# Altium schematic symbol library SamacSys.SchLib: 125 symbols (part 2 of 2)
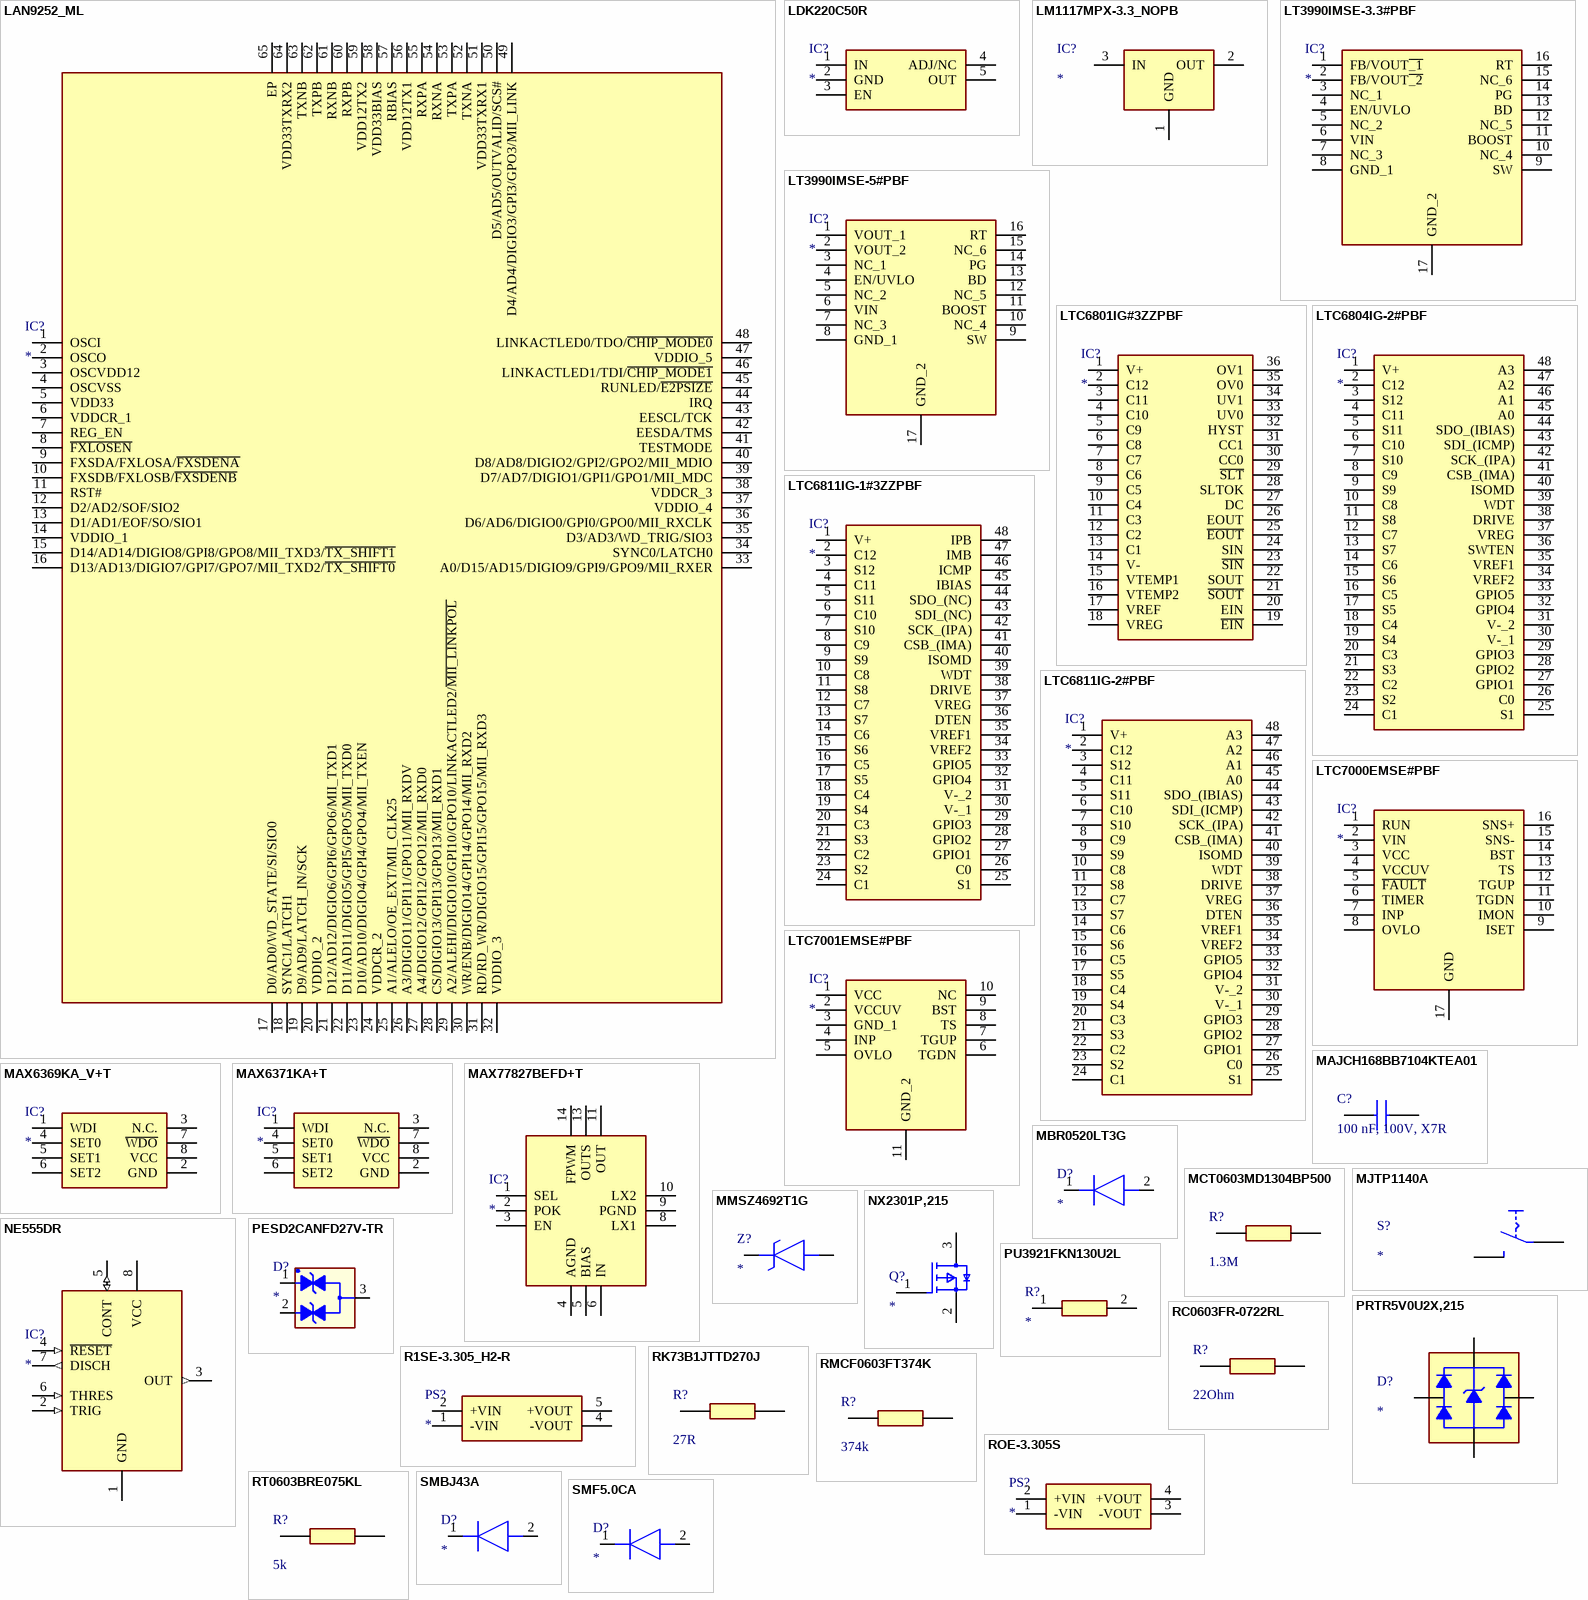
[diagram p4: symbols LAN9252_ML to SMF5.0CA]

## MAJCH168BB7104KTEA01
designator C?, comment 100 nF, 100V, X7R
Capacitor 100nF, 100V, X7R; Manufacturer_Name: TAIYO YUDEN; Manufacturer_Part_Number: MAJCH168BB7104KTEA01; Datasheet Link: https://ds.yuden.co.jp/TYCOMPAS/or/detail?pn=MAJCH168BB7104KTEA01; Height: 0.8mm; Mouser Part Number: 963-MAJCH168BB7104KT; Mouser Price/Stock: https://www.mouser.co.uk/ProductDetail/TAIYO-YUDEN/MAJCH168BB7104KTEA01?qs=ZcfC38r4PovaTBrG0IdezQ%3D%3D; Arrow Part Number: MAJCH168BB7104KTEA01; Arrow Price/Stock: https://www.arrow.com/en/products/majch168bb7104ktea01/taiyo-yuden?utm_currency=USD&region=nac; Supplier 1: Mouser; Supplier Part Number 1: 963-MAJCH168BB7104KT
footprint MAJx16
pins: 1, 2

## MAX6369KA_V+T
designator IC?
Integrated Circuit; Manufacturer_Name: Analog Devices; Manufacturer_Part_Number: MAX6369KA/V+T; Datasheet Link: https://pdfserv.maximintegrated.com/en/ds/MAX6369-MAX6374.pdf; Height: 1.45mm; Mouser Part Number: 700-MAX6369KA/V+T; Mouser Price/Stock: https://www.mouser.co.uk/ProductDetail/Analog-Devices-Maxim-Integrated/MAX6369KA-V%2bT?qs=Mc2rGIXtnyXSLiZoc8BdSg%3D%3D; Arrow Part Number: MAX6369KA/V+T; Arrow Price/Stock: https://www.arrow.com/en/products/max6369kavt/maxim-integrated?region=nac
footprint SOT65P280X145-8N
pins: 1 WDI, 2 GND (power), 3 N.C., 4 SET0, 5 SET1, 6 SET2, 7 ~{WDO}, 8 VCC (power)

## MAX6371KA+T
designator IC?
Integrated Circuit; Manufacturer_Name: Analog Devices; Manufacturer_Part_Number: MAX6371KA+T; Datasheet Link: http://datasheets.maximintegrated.com/en/ds/MAX6369-MAX6374.pdf; Height: 1.45mm; Mouser Part Number: 700-MAX6371KAT; Mouser Price/Stock: https://www.mouser.co.uk/ProductDetail/Analog-Devices-Maxim-Integrated/MAX6371KA%2bT?qs=S0kZczzPnwlF5a77C%252BMVSA%3D%3D; Arrow Part Number: MAX6371KA+T; Arrow Price/Stock: https://www.arrow.com/en/products/max6371kat/analog-devices?region=nac
footprint SOT65P280X145-8N
pins: 1 WDI, 2 GND (power), 3 N.C., 4 SET0, 5 SET1, 6 SET2, 7 ~{WDO}, 8 VCC (power)

## MAX77827BEFD+T
designator IC?
Integrated Circuit; Manufacturer_Name: Analog Devices; Manufacturer_Part_Number: MAX77827BEFD+T; Datasheet Link: https://www.analog.com/media/en/technical-documentation/data-sheets/MAX77827.pdf; Height: 0.6mm; Mouser Part Number: 700-MAX77827BEFD+T; Mouser Price/Stock: https://www.mouser.co.uk/ProductDetail/Analog-Devices-Maxim-Integrated/MAX77827BEFD%2bT?qs=yqaQSyyJnNgFOTHEkqA3ww%3D%3D; Arrow Part Number: MAX77827BEFD+T; Arrow Price/Stock: https://www.arrow.com/en/products/max77827befdt/analog-devices?utm_currency=USD&region=nac
footprint MAX77827BEFDT
pins: 1 SEL, 2 POK, 3 EN, 4 AGND, 5 BIAS, 6 IN, 8 LX1, 9 PGND, 10 LX2, 11 OUT, 13 OUTS, 14 FPWM

## MBR0520LT3G
designator D?
Diode; Manufacturer_Name: onsemi; Manufacturer_Part_Number: MBR0520LT3G; Datasheet Link: https://www.onsemi.com/pub/Collateral/MBR0520LT1-D.PDF; Height: 1.35mm; Mouser Part Number: 863-MBR0520LT3G; Mouser Price/Stock: https://www.mouser.co.uk/ProductDetail/onsemi/MBR0520LT3G?qs=3JMERSakebrHITezQJBmeQ%3D%3D; Arrow Part Number: MBR0520LT3G; Arrow Price/Stock: https://www.arrow.com/en/products/mbr0520lt3g/on-semiconductor?utm_currency=USD&region=nac
footprint SOD3716X135N
pins: 1 K, 2 A

## MCT0603MD1304BP500
designator R?, comment value 1.3M  (hidden comment: 1.3M 1%)
Resistor 1.3M 1%; Manufacturer_Name: Vishay; Manufacturer_Part_Number: MCT0603MD1304BP500; Datasheet Link: http://www.vishay.com/docs/28705/mcx0x0xpro.pdf; Height: 0.55mm; Mouser Part Number: 594-MCT0603MD1304BP5; Mouser Price/Stock: https://www.mouser.co.uk/ProductDetail/Vishay/MCT0603MD1304BP500?qs=Jslch3jnSjn3NEL17BAJuQ%3D%3D; Supplier 1: Mouser; Supplier Part Number 1: 594-MCT0603MD1304BP5
footprint RESC1608X55N
pins: 1, 2

## MJTP1140A
designator S?
Switch; Manufacturer_Name: Apem; Manufacturer_Part_Number: MJTP1140A; Datasheet Link: https://componentsearchengine.com/Datasheets/1/MJTP1140A.pdf; Height: 1.5mm; Mouser Part Number: 642-MJTP1140A; Mouser Price/Stock: https://www.mouser.com/Search/Refine.aspx?Keyword=642-MJTP1140A
footprint MJTP1140A
pins: 1, 2

## MMSZ4692T1G
designator Z?
Zener Diode 6.8V; Manufacturer_Name: onsemi; Manufacturer_Part_Number: MMSZ4692T1G; Datasheet Link: https://www.onsemi.com/pub/Collateral/MMSZ4678T1-D.PDF; Height: 1.35mm; Mouser Part Number: 863-MMSZ4692T1G; Mouser Price/Stock: https://www.mouser.co.uk/ProductDetail/onsemi/MMSZ4692T1G?qs=P4IOph%252Bbot8jSn3zyyx1xw%3D%3D; Arrow Part Number: MMSZ4692T1G; Arrow Price/Stock: https://www.arrow.com/en/products/mmsz4692t1g/on-semiconductor
footprint SOD3716X135N
pins: 1 K, 2 A

## NE555DR
designator IC?
Integrated Circuit; Manufacturer_Name: Texas Instruments; Manufacturer_Part_Number: NE555DR; Datasheet Link: http://www.ti.com/lit/ds/symlink/ne555.pdf; Height: 1.75mm; Mouser Part Number: 595-NE555DR; Mouser Price/Stock: https://www.mouser.com/Search/Refine.aspx?Keyword=595-NE555DR; RS Part Number: 1218414; RS Price/Stock: http://uk.rs-online.com/web/p/products/1218414
footprint SOIC127P600X175-8N
pins: 1 GND (power), 2 TRIG (in), 3 OUT (out), 4 ~{RESET} (in), 5 CONT (io), 6 THRES (in), 7 DISCH (out), 8 VCC (power)

## NX2301P,215
designator Q?
MOSFET (P-Channel); Manufacturer_Name: Nexperia; Manufacturer_Part_Number: NX2301P,215; Datasheet Link: https://assets.nexperia.com/documents/data-sheet/NX2301P.pdf; Height: 1.1mm; Mouser Part Number: 771-NX2301P215; Mouser Price/Stock: https://www.mouser.co.uk/ProductDetail/Nexperia/NX2301P215?qs=A1cBxND5mHKs%252BLrxCDENxw%3D%3D; Arrow Part Number: NX2301P,215; Arrow Price/Stock: https://www.arrow.com/en/products/nx2301p215/nexperia?utm_currency=USD&region=europe
footprint SOT95P230X110-3N
pins: 1 G, 2 S, 3 D

## PESD2CANFD27V-TR
designator D?
Diode; Manufacturer_Name: Nexperia; Manufacturer_Part_Number: PESD2CANFD27V-TR; Datasheet Link: https://assets.nexperia.com/documents/data-sheet/PESD2CANFD27V-T.pdf; Height: 1.1mm; Mouser Part Number: 771-PESD2CANFD27V-TR; Mouser Price/Stock: https://www.mouser.co.uk/ProductDetail/Nexperia/PESD2CANFD27V-TR?qs=OlC7AqGiEDlVVUGGaoaotA%3D%3D; Arrow Part Number: PESD2CANFD27V-TR; Arrow Price/Stock: null?utm_currency=USD&region=nac
footprint SOT95P230X110-3N
pins: 1 K1, 2 K2, 3 A

## PRTR5V0U2X,215
designator D?
Diode; Manufacturer_Name: Nexperia; Manufacturer_Part_Number: PRTR5V0U2X,215; Datasheet Link: https://assets.nexperia.com/documents/data-sheet/PRTR5V0U2X.pdf; Height: 1.1mm; Mouser Part Number: 771-PRTR5V0U2X-T/R; Mouser Price/Stock: https://www.mouser.co.uk/ProductDetail/Nexperia/PRTR5V0U2X215?qs=LOCUfHb8d9sDkgY4cRj8Lw%3D%3D; Arrow Part Number: PRTR5V0U2X,215; Arrow Price/Stock: https://www.arrow.com/en/products/prtr5v0u2x215/nexperia?utm_currency=USD&region=europe
footprint PRTR5V0U2X
pins: 1 ground, 2 input/output_1, 3 input/output_2, 4 supply_voltage

## PU3921FKN130U2L
designator R?
Resistor; Manufacturer_Name: YAGEO; Manufacturer_Part_Number: PU3921FKN130U2L; Datasheet Link: https://www.yageo.com/upload/media/product/app/datasheet/rchip/pyu-pu_51_rohs_l.pdf; Height: 0.63mm; Mouser Part Number: 603-PU3921FKN130U2L; Mouser Price/Stock: https://www.mouser.co.uk/ProductDetail/YAGEO/PU3921FKN130U2L?qs=Yv%2FzsQ5pz3Hao%2Fr%2FiAcpvw%3D%3D; Arrow Part Number: PU3921FKN130U2L; Arrow Price/Stock: https://www.arrow.com/en/products/pu3921fkn130u2l/yageo?utm_currency=USD&region=nac
footprint RESC10052X63N
pins: 1, 2

## R1SE-3.305_H2-R
designator PS?
Power Supply; Manufacturer_Name: RECOM Power; Manufacturer_Part_Number: R1SE-3.305/H2-R; Datasheet Link: https://www.recom-power.com/pdf/Econoline/R1SE_H2.pdf; Height: 7.5mm; Mouser Part Number: 919-R1SE-3.305/H2-R; Mouser Price/Stock: https://www.mouser.co.uk/ProductDetail/RECOM-Power/R1SE-3.305-H2-R?qs=2sV1BwmkawRvGV619l%2F9xA%3D%3D; Arrow Part Number: R1SE-3.305/H2-R; Arrow Price/Stock: https://www.arrow.com/en/products/r1se-3.305h2-r/recom-power?region=nac
footprint R1SE3305H2R
pins: 1 -VIN, 2 +VIN, 4 -VOUT, 5 +VOUT

## RC0603FR-0722RL
designator R?, comment value 22Ohm  (hidden comment: 22Ohm 1%)
Resistor 22Ohm 1%; Manufacturer_Name: YAGEO; Manufacturer_Part_Number: RC0603FR-0722RL; Datasheet Link: http://www.farnell.com/datasheets/1868787.pdf; Height: 0.55mm; Mouser Part Number: 603-RC0603FR-0722RL; Mouser Price/Stock: https://www.mouser.co.uk/ProductDetail/YAGEO/RC0603FR-0722RL?qs=diQw95jMAeMOsxb8bne7fg%3D%3D; Arrow Part Number: RC0603FR-0722RL; Arrow Price/Stock: https://www.arrow.com/en/products/rc0603fr-0722rl/yageo?region=nac; Supplier 1: Future Electronics; Supplier Part Number 1: 8636706
footprint RESC1608X55N
pins: 1, 2

## RK73B1JTTD270J
designator R?, comment value 27R  (hidden comment: 27R 5%)
Resistor 27R 5%; Manufacturer_Name: KOA Speer; Manufacturer_Part_Number: RK73B1JTTD270J; Datasheet Link: http://www.koaspeer.com/catimages/Products/RK73-RT/RK73-RT.pdf; Height: 0.55mm; Mouser Part Number: 660-RK73B1JTTD270J; Mouser Price/Stock: https://www.mouser.co.uk/ProductDetail/KOA-Speer/RK73B1JTTD270J?qs=Ng4KxyU0dfwqvzJSFEpRVQ%3D%3D; Arrow Part Number: RK73B1JTTD270J; Arrow Price/Stock: https://www.arrow.com/en/products/rk73b1jttd270j/koa-speer-electronics?region=nac; Supplier 1: Mouser; Supplier Part Number 1: 660-RK73B1JTTD270J
footprint RESC1608X55N
pins: 1, 2

## RMCF0603FT374K
designator R?, comment value 374k  (hidden comment: 374k 1%)
Resistor 374k 1%; Manufacturer_Name: Stackpole Electronics; Manufacturer_Part_Number: RMCF0603FT374K; Datasheet Link: https://www.seielect.com/Catalog/SEI-RMCF_RMCP.pdf; Height: 0.55mm; Supplier 1: Avnet; Supplier Part Number 1: RMCF0603FT374K
footprint RESC1608X55N
pins: 1, 2

## ROE-3.305S
designator PS?
Power Supply; Manufacturer_Name: RECOM Power; Manufacturer_Part_Number: ROE-3.305S; Datasheet Link: https://www.recom-power.com/pdf/Econoline/ROE.pdf; Height: 10.5mm; Mouser Part Number: 919-ROE-3.305S; Mouser Price/Stock: https://www.mouser.co.uk/ProductDetail/RECOM-Power/ROE-3.305S?qs=wlO1EFRhkBCdowjFZq2Hcg%3D%3D; Arrow Part Number: ROE-3.305S; Arrow Price/Stock: https://www.arrow.com/en/products/roe-3.305s/recom-power?region=nac
footprint ROE3305S
pins: 1 -VIN, 2 +VIN, 3 -VOUT, 4 +VOUT

## RT0603BRE075KL
designator R?, comment value 5k  (hidden comment: 5k  0.1%)
Resistor 5k  0.1%; Manufacturer_Name: YAGEO; Manufacturer_Part_Number: RT0603BRE075KL; Datasheet Link: https://www.yageo.com/upload/media/product/productsearch/datasheet/rchip/PYu-RT_1-to-0.01_RoHS_L_13.pdf; Height: 0.55mm; Mouser Part Number: 603-RT0603BRE075KL; Mouser Price/Stock: https://www.mouser.co.uk/ProductDetail/YAGEO/RT0603BRE075KL?qs=acBVhj9v9XV8K9glB49uvw%3D%3D; Arrow Part Number: RT0603BRE075KL; Arrow Price/Stock: https://www.arrow.com/en/products/rt0603bre075kl/yageo?utm_currency=USD&region=nac; Supplier 1: Avnet; Supplier Part Number 1: 49AK4350
footprint RESC1608X55N
pins: 1, 2

## SMBJ43A
designator D?
Diode; Manufacturer_Name: LITTELFUSE; Manufacturer_Part_Number: SMBJ43A; Datasheet Link: https://componentsearchengine.com/Datasheets/2/SMBJ43A.pdf; Height: 2.44mm; Mouser Part Number: 576-SMBJ43A; Mouser Price/Stock: https://www.mouser.co.uk/ProductDetail/Littelfuse/SMBJ43A?qs=zHiv0nsVGmoMbQaEc1ZdvQ%3D%3D; Arrow Part Number: SMBJ43A; Arrow Price/Stock: https://www.arrow.com/en/products/smbj43a/littelfuse?region=nac
footprint DIOM5436X244N
pins: 1 K, 2 A

## SMF5.0CA
designator D?
Diode; Manufacturer_Name: LITTELFUSE; Manufacturer_Part_Number: SMF5.0CA; Datasheet Link: https://www.mouser.de/datasheet/2/240/Littelfuse_TVS_Diode_SMF_Datasheet.pdf-1698977.pdf; Height: 1.08mm; Mouser Part Number: 576-SMF5.0CA; Mouser Price/Stock: https://www.mouser.co.uk/ProductDetail/Littelfuse/SMF5.0CA?qs=d0WKAl%252BL4KbRT8gYdmqI%252Bg%3D%3D; Arrow Part Number: SMF5.0CA; Arrow Price/Stock: https://www.arrow.com/en/products/smf5.0ca/littelfuse?utm_currency=USD&region=nac
footprint SODFL3618X108N
pins: 1 K, 2 A

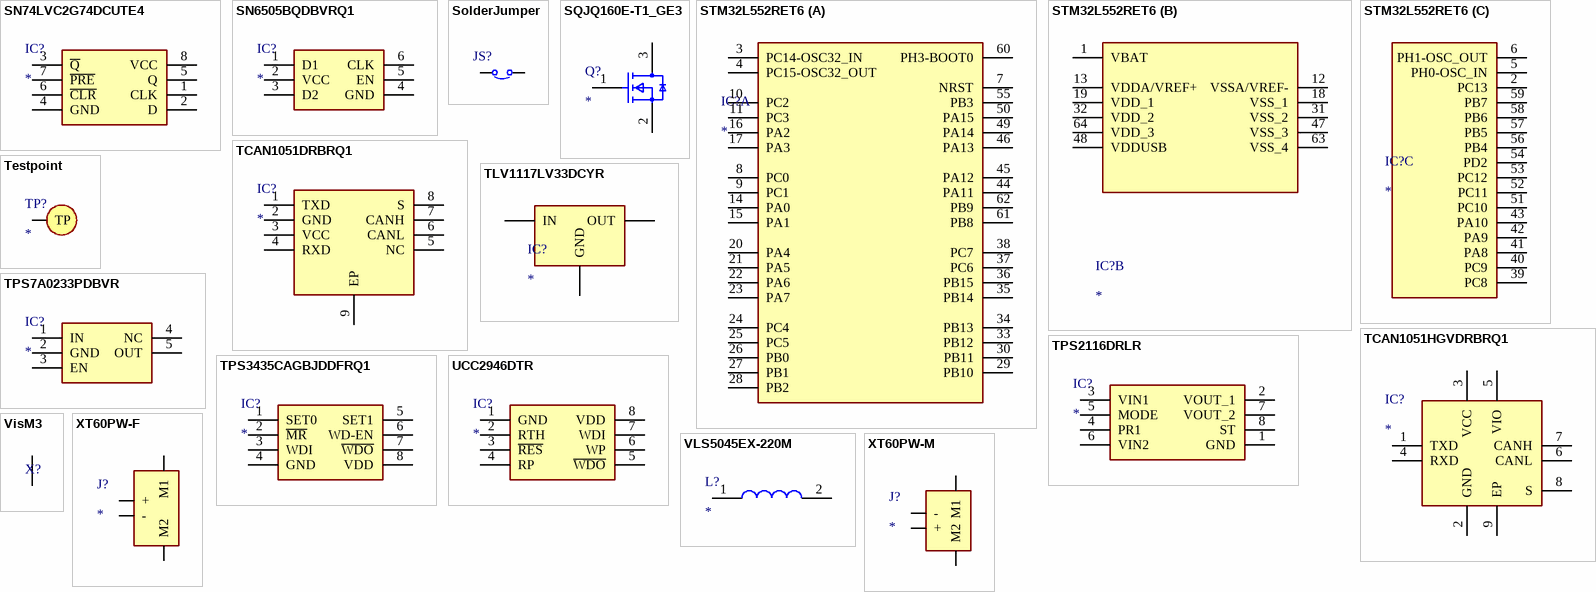
[diagram p3: symbols SN74LVC2G74DCUTE4 to XT60PW-M]

## SN74LVC2G74DCUTE4
designator IC?
Integrated Circuit; Manufacturer_Name: Texas Instruments; Manufacturer_Part_Number: SN74LVC2G74DCUTE4; Datasheet Link: https://www.ti.com/lit/ds/symlink/sn74lvc2g74.pdf?ts=1620105032147&ref_url=https%253A%252F%252Fwww.ti.com%252Fsitesearch%252Fdocs%252Funiversalsearch.tsp%253FsearchTerm%253DSN74LVC2G74DCURE4; Height: 0.9mm; Mouser Part Number: 595-74LVC2G74DCUTE4; Mouser Price/Stock: https://www.mouser.co.uk/ProductDetail/Texas-Instruments/SN74LVC2G74DCUTE4?qs=0smPjiIwnfLoccl5Dt0mHg%3D%3D; Arrow Part Number: SN74LVC2G74DCUTE4; Arrow Price/Stock: https://www.arrow.com/en/products/sn74lvc2g74dcute4/texas-instruments
footprint SOP50P310X90-8N
pins: 1 CLK, 2 D, 3 ~{Q}, 4 GND, 5 Q, 6 ~{CLR}, 7 ~{PRE}, 8 VCC

## SN6505BQDBVRQ1
designator IC?
Integrated Circuit; Manufacturer_Name: Texas Instruments; Manufacturer_Part_Number: SN6505BQDBVRQ1; Datasheet Link: https://www.arrow.com/en/products/sn6505bqdbvrq1/texas-instruments; Height: 1.45mm; Mouser Part Number: 595-SN6505BQDBVRQ1; Mouser Price/Stock: https://www.mouser.co.uk/ProductDetail/Texas-Instruments/SN6505BQDBVRQ1?qs=PqoDHHvF64%252B74AsAsc7l4g%3D%3D; Arrow Part Number: SN6505BQDBVRQ1; Arrow Price/Stock: https://www.arrow.com/en/products/sn6505bqdbvrq1/texas-instruments?region=nac
footprint SOT95P280X145-6N
pins: 1 D1, 2 VCC, 3 D2, 4 GND, 5 EN, 6 CLK

## SolderJumper
designator JS?  (value not drawn)
footprint SolderJumper
pins: 1, 2

## SQJQ160E-T1_GE3
designator Q?
MOSFET (N-Channel); Manufacturer_Name: Vishay; Manufacturer_Part_Number: SQJQ160E-T1_GE3; Datasheet Link: https://www.vishay.com/docs/63059/sqjq160e.pdf; Height: 1.65mm; Mouser Part Number: 78-SQJQ160E-T1_GE3; Mouser Price/Stock: https://www.mouser.co.uk/ProductDetail/Vishay-Semiconductors/SQJQ160E-T1_GE3?qs=Wj%2FVkw3K%252BMDBWZlqh0rWDw%3D%3D
footprint SQJQ160ET1_GE3
pins: 1 G, 2 S_1, 3 D_1

## STM32L552RET6
designator IC?
Integrated Circuit; Manufacturer_Name: STMicroelectronics; Manufacturer_Part_Number: STM32L552RET6; Datasheet Link: https://www.mouser.in/datasheet/2/389/dm00532748-1799512.pdf; Height: 1.6mm; Mouser Part Number: 511-STM32L552RET6; Mouser Price/Stock: https://www.mouser.co.uk/ProductDetail/STMicroelectronics/STM32L552RET6?qs=%252B6g0mu59x7I6Ku2G1CuBXA%3D%3D; Arrow Part Number: STM32L552RET6; Arrow Price/Stock: https://www.arrow.com/en/products/stm32l552ret6/stmicroelectronics?region=nac
footprint QFP50P1200X1200X160-64N
part A pins: 3 PC14-OSC32_IN, 4 PC15-OSC32_OUT, 7 NRST, 8 PC0, 9 PC1, 10 PC2, 11 PC3, 14 PA0, 15 PA1, 16 PA2, 17 PA3, 20 PA4, 21 PA5, 22 PA6, 23 PA7, 24 PC4, 25 PC5, 26 PB0, 27 PB1, 28 PB2, 29 PB10, 30 PB11, 33 PB12, 34 PB13, 35 PB14, 36 PB15, 37 PC6, 38 PC7, 44 PA11, 45 PA12, 46 PA13, 49 PA14, 50 PA15, 55 PB3, 60 PH3-BOOT0, 61 PB8, 62 PB9
part B pins: 1 VBAT, 12 VSSA/VREF-, 13 VDDA/VREF+, 18 VSS_1, 19 VDD_1, 31 VSS_2, 32 VDD_2, 47 VSS_3, 48 VDDUSB, 63 VSS_4, 64 VDD_3
part C pins: 2 PC13, 5 PH0-OSC_IN, 6 PH1-OSC_OUT, 39 PC8, 40 PC9, 41 PA8, 42 PA9, 43 PA10, 51 PC10, 52 PC11, 53 PC12, 54 PD2, 56 PB4, 57 PB5, 58 PB6, 59 PB7

## TCAN1051DRBRQ1
designator IC?
Integrated Circuit; Manufacturer_Name: Texas Instruments; Manufacturer_Part_Number: TCAN1051DRBRQ1; Datasheet Link: http://www.ti.com/lit/gpn/TCAN1051-Q1; Height: 1mm; Mouser Part Number: 595-TCAN1051DRBRQ1; Mouser Price/Stock: https://www.mouser.co.uk/ProductDetail/Texas-Instruments/TCAN1051DRBRQ1?qs=HXFqYaX1Q2zpm8gPQfcrEA%3D%3D; Arrow Part Number: TCAN1051DRBRQ1; Arrow Price/Stock: https://www.arrow.com/en/products/tcan1051drbrq1/texas-instruments?region=nac
footprint SON65P300X300X100-9N-D
pins: 1 TXD, 2 GND, 3 VCC, 4 RXD, 5 NC, 6 CANL, 7 CANH, 8 S, 9 EP

## TCAN1051HGVDRBRQ1
designator IC?
Integrated Circuit; Manufacturer_Name: Texas Instruments; Manufacturer_Part_Number: TCAN1051HGVDRBRQ1; Datasheet Link: http://www.ti.com/lit/gpn/TCAN1051HGV-Q1; Height: 1mm; Mouser Part Number: 595-CAN1051HGVDRBRQ1; Mouser Price/Stock: https://www.mouser.co.uk/ProductDetail/Texas-Instruments/TCAN1051HGVDRBRQ1?qs=HXFqYaX1Q2xR%252Bfd0ySUCjA%3D%3D; Arrow Part Number: TCAN1051HGVDRBRQ1; Arrow Price/Stock: https://www.arrow.com/en/products/tcan1051hgvdrbrq1/texas-instruments?region=nac
footprint SON65P300X300X100-9N-D
pins: 1 TXD, 2 GND, 3 VCC, 4 RXD, 5 VIO, 6 CANL, 7 CANH, 8 S, 9 EP

## Testpoint
designator TP?
footprint Testpoint
pins: 1 TP  

## TLV1117LV33DCYR
designator IC?
Integrated Circuit; Manufacturer_Name: Texas Instruments; Manufacturer_Part_Number: TLV1117LV33DCYR; Datasheet Link: http://www.ti.com/lit/gpn/tlv1117lv; Height: 1.8mm; Mouser Part Number: 595-TLV1117LV33DCYR; Mouser Price/Stock: https://www.mouser.co.uk/ProductDetail/Texas-Instruments/TLV1117LV33DCYR?qs=tEz3BkPb1rwzXMb8FiWhow%3D%3D; Arrow Part Number: TLV1117LV33DCYR; Arrow Price/Stock: https://www.arrow.com/en/products/tlv1117lv33dcyr/texas-instruments?utm_currency=USD&region=nac
footprint SOT230P700X180-4N
pins: 1 GND, 2 OUT, 3 IN

## TPS7A0233PDBVR
designator IC?
Integrated Circuit; Manufacturer_Name: Texas Instruments; Manufacturer_Part_Number: TPS7A0233PDBVR; Datasheet Link: https://www.ti.com/lit/gpn/TPS7A02; Height: 1.45mm; Mouser Part Number: 595-TPS7A0233PDBVR; Mouser Price/Stock: https://www.mouser.co.uk/ProductDetail/Texas-Instruments/TPS7A0233PDBVR?qs=OlC7AqGiEDmMDf5GlW%2FWnQ%3D%3D; Arrow Part Number: TPS7A0233PDBVR; Arrow Price/Stock: https://www.arrow.com/en/products/tps7a0233pdbvr/texas-instruments?region=europe
footprint SOT95P280X145-5N
pins: 1 IN, 2 GND, 3 EN, 4 NC, 5 OUT

## TPS2116DRLR
designator IC?
Integrated Circuit; Manufacturer_Name: Texas Instruments; Manufacturer_Part_Number: TPS2116DRLR; Datasheet Link: https://www.ti.com/lit/gpn/tps2116; Height: 0.6mm; Mouser Part Number: 595-TPS2116DRLR; Mouser Price/Stock: https://www.mouser.co.uk/ProductDetail/Texas-Instruments/TPS2116DRLR?qs=aP1CjGhiNiGo3XAyXcVPaQ%3D%3D; Arrow Part Number: TPS2116DRLR; Arrow Price/Stock: https://www.arrow.com/en/products/tps2116drlr/texas-instruments?utm_currency=USD&region=nac
footprint SOTFL50P160X60-8N
pins: 1 GND, 2 VOUT_1, 3 VIN1, 4 PR1, 5 MODE, 6 VIN2, 7 VOUT_2, 8 ST

## TPS3435CAGBJDDFRQ1
designator IC?
Integrated Circuit; Manufacturer_Name: Texas Instruments; Manufacturer_Part_Number: TPS3435CAGBJDDFRQ1; Datasheet Link: https://www.ti.com/lit/ds/symlink/tps3435.pdf; Height: 1.1mm; Mouser Part Number: 595-TPS3435CAGBJDDFRQ1; Mouser Price/Stock: https://mou.sr/3FtG71M
footprint SOT65P280X110-8N
pins: 1 SET0, 2 ~{MR}, 3 WDI, 4 GND, 5 SET1, 6 WD-EN, 7 ~{WDO}, 8 VDD

## UCC2946DTR
designator IC?
Integrated Circuit; Manufacturer_Name: Texas Instruments; Manufacturer_Part_Number: UCC2946DTR; Datasheet Link: http://www.ti.com/lit/gpn/UCC2946; Height: 1.75mm; Mouser Part Number: 595-UCC2946DTR; Mouser Price/Stock: https://www.mouser.co.uk/ProductDetail/Texas-Instruments/UCC2946DTR?qs=eJkN62t4xTUCNkQ98mH6MA%3D%3D; Arrow Part Number: UCC2946DTR; Arrow Price/Stock: https://www.arrow.com/en/products/ucc2946dtr/texas-instruments?region=nac
footprint SOIC127P600X175-8N
pins: 1 GND, 2 RTH, 3 ~{RES}, 4 RP, 5 ~{WDO}, 6 WP, 7 WDI, 8 VDD

## VisM3
designator X?, comment Trou pour Vis M3 celon DIN912  (value not drawn)
footprint VisM3
pins: 1 M1

## VLS5045EX-220M
designator L?
Inductor; Manufacturer_Name: TDK; Manufacturer_Part_Number: VLS5045EX-220M; Datasheet Link: https://product.tdk.com/system/files/dam/doc/product/inductor/inductor/smd/catalog/inductor_commercial_power_vls5045ex_en.pdf; Height: 4mm; Mouser Part Number: 810-VLS5045EX-220M; Mouser Price/Stock: https://www.mouser.co.uk/ProductDetail/TDK/VLS5045EX-220M?qs=oF%2FSscNnLpAAQL9ec5VdpA%3D%3D; Arrow Part Number: VLS5045EX-220M; Arrow Price/Stock: https://www.arrow.com/en/products/vls5045ex-220m/tdk?region=nac
footprint VLS5045EX330M
pins: 1, 2

## XT60PW-F
designator J?
Connector; Manufacturer_Name: Amass; Manufacturer_Part_Number: XT60PW-F; Datasheet Link: https://www.tme.eu/Document/1191bc2fa3aee3c446e5a895fd8f7983/XT60PW-F.pdf; Height: 8.4mm
footprint XT60PWF
pins: 1 +, 2 -, 3 M1, 4 M2

## XT60PW-M
designator J?
Connector; Manufacturer_Name: Changzou Amass Elec; Manufacturer_Part_Number: XT60PW-M; Datasheet Link: https://www.tme.eu/Document/9b8d0c5eb7094295f3d3112c214d3ade/XT60PW%20SPEC.pdf; Height: 8.4mm
footprint XT60PWM
pins: 1 -, 2 +, M1, M2